# Altium integrated library ad_test2.IntLib: 10 symbols
Pins are listed as number, name and electrical type; pins without a type are passive.

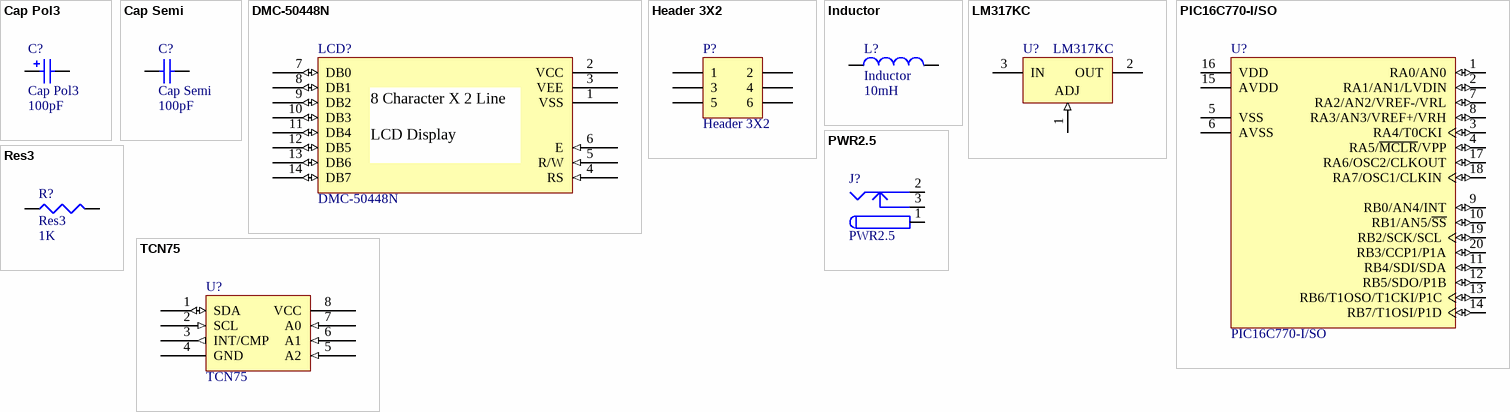
[diagram p0: symbols Cap Pol3 to TCN75]

## Cap Pol3
designator C?  value 100pF
Polarized Capacitor (Surface Mount); Published: 8-Jun-2000; LatestRevisionDate: 29-May-2009; LatestRevisionNote: IPC-7351 Footprint Added.; PackageReference: C0805; Publisher: Altium Limited; PackageDescription: Chip Capacitor
footprint C0805 (Chip Capacitor, Body 2.0x1.3mm, IPC High Density)
footprint 1812 (Chip Capacitor, Body 4.5x3.2mm, IPC High Density)
footprint 1825 (Chip Capacitor, Body 4.5x6.4mm, IPC High Density)
footprint C2225 (Chip Capacitor, Body 5.7x6.4mm, IPC High Density)
footprint 2220 (Chip Capacitor, Body 5.7x5.0mm, IPC High Density)
simulation model CAP (Capacitor)
signal-integrity model Cap Pol
pins: 1, 2
1 alternate drawing of the same symbol

## Cap Semi
designator C?  value 100pF
Capacitor (Semiconductor SIM Model); Published: 8-Jun-2000; LatestRevisionDate: 29-May-2009; LatestRevisionNote: IPC-7351 Footprint Added.; PackageReference: C1206; Publisher: Altium Limited; PackageDescription: Chip Capacitor
footprint C1206 (Chip Capacitor, Body 3.2x1.6mm, IPC High Density)
footprint 0402 (Chip Capacitor, Body 1.0x0.5mm, IPC High Density)
footprint C2512 (Chip Capacitor, Body 2.54x1.27mm, IPC High Density)
footprint 1608[0603] (Chip Capacitor, Body 1.6x0.8mm, IPC High Density)
footprint C1210 (Chip Capacitor, Body 3.2x2.5mm, IPC High Density)
simulation model CAP (Semiconductor Capacitor)
signal-integrity model Cap Semi
pins: 1, 2

## DMC-50448N
designator LCD?
8 Character X 2 Line / LCD Display
footprint DMC-50448N (LCD,DMC-50448N)
pins: 1 VSS (power), 2 VCC (power), 3 VEE (power), 4 RS (in), 5 R/W (in), 6 E (in), 7 DB0 (io), 8 DB1 (io), 9 DB2 (io), 10 DB3 (io), 11 DB4 (io), 12 DB5 (io), 13 DB6 (io), 14 DB7 (io)
text: 8 Character X 2 Line / LCD Display

## Header 3X2
designator P?
Header, 3-Pin, Dual row; LatestRevisionDate: 17-Jul-2002; LatestRevisionNote: Re-released for DXP Platform.; Publisher: Altium Limited
footprint HDR2X3 (Connector; Header; 3x2 Position)
signal-integrity model Connector
pins: 1, 2, 3, 4, 5, 6

## Inductor
designator L?  value 10mH
Code_IEC: 1005; Published: 8-Jun-2000; LatestRevisionDate: 29-May-2009; LatestRevisionNote: IPC-7351 Footprint Added.; PackageReference: 0402-A; Publisher: Altium Limited; PackageDescription: Chip Inductor; Code_JEITA: 0402
footprint 0402-A (Chip Inductor, Body 1.0x0.5mm, IPC High Density)
footprint INDC1608L (Chip Inductor, Body 1.6x0.8mm, IPC High Density)
footprint 2029 (Chip Inductor, Body 2.0x1.2mm, IPC High Density)
footprint 0603 (Chip Inductor, Body 0.6x0.3mm, IPC High Density)
footprint INDC3216 (Chip Inductor, Body 3.2x1.6mm, IPC High Density)
footprint INDC4532 (Chip Inductor, Body 4.5x3.2mm, IPC High Density)
simulation model INDUCTOR (Inductor)
signal-integrity model Inductor
pins: 1, 2

## LM317KC
designator U?
3-Terminal Adjustable Regulator; Note: Pin 2 is electrically connected to tab; Published: 15-Apr-2002; DatasheetVersion: Feb-1988; PackageVersion: Sep-1995; PackageReference: KC03; Publisher: Altium Limited; PackageDescription: TO, Thru-Hole, Vertical, Heatsink Mounted; 3 In-Line Leads; Pitch 2.54 mm; ComponentLink1Description: Manufacturer Link; ComponentLink1URL: http://www.ti.com/
footprint KC03 (TO, Thru-Hole, Vertical, Heatsink Mounted; 3 In-Line Leads; Pitch 2.54 mm)
pins: 1 ADJ (in), 2 OUT (power), 3 IN (power)

## PIC16C770-I/SO
designator U?
8-Bit CMOS Microcontroller with 12-Bit A/D, 2K (x14-Bit words) EPROM, 256 Bytes RAM, 20-Pin SOIC, 4.0 to 5.5V Supply Range, Industrial Temperature; ComponentAvailability: Unknown. Contact manufacturer to determine status.; Published: 11-Oct-2004; LatestRevisionDate: 29-Jan-2009; LatestRevisionNote: Sch. layout revised. 3D Model Removed.; DatasheetVersion: revB, Feb-2002; PackageVersion: revBB, Aug-2009; PackageReference: SOIC-SO20; Publisher: Altium Limited; PackageDescription: 20-Lead Plastic Small Outline (SO) - Wide 7.50mm Body [SOIC]; Supplier 1: Digi-Key; Supplier Part Number 1: PIC16C770-I/SO-ND; Code_JEDEC: MS-013-AC; Code_IPC: SOIC127P1030-20; ComponentLink1Description: Datasheet; ComponentLink1URL: http://ww1.microchip.com/downloads/en/DeviceDoc/41120b.pdf; ComponentLink2Description: Packaging Specification; ComponentLink2URL: http://www.microchip.com/stellent/groups/techpub_sg/documents/packagingspec/en012702.pdf; ComponentLink3Description: Microchip.com Home; ComponentLink3URL: http://www.microchip.com/
footprint SOIC-SO20_N (SOIC, 20-Leads, Body 12.8x7.5mm, Pitch 1.27mm, IPC Medium Density)
footprint SOIC-SO20_L (SOIC, 20-Leads, Body 12.8x7.5mm, Pitch 1.27mm, IPC High Density)
footprint SOIC-SO20_M (SOIC, 20-Leads, Body 12.8x7.5mm, Pitch 1.27mm, IPC Low Density)
pins: 1 RA0/AN0 (io), 2 RA1/AN1/LVDIN (io), 3 RA4/T0CKI (io), 4 RA5/~{MCLR}/VPP (io), 5 VSS (power), 6 AVSS (power), 7 RA2/AN2/VREF-/VRL (io), 8 RA3/AN3/VREF+/VRH (io), 9 RB0/AN4/INT (io), 10 RB1/AN5/~{SS} (io), 11 RB4/SDI/SDA (io), 12 RB5/SDO/P1B (io), 13 RB6/T1OSO/T1CKI/P1C (io), 14 RB7/T1OSI/P1D (io), 15 AVDD (power), 16 VDD (power), 17 RA6/OSC2/CLKOUT (io), 18 RA7/OSC1/CLKIN (io), 19 RB2/SCK/SCL (io), 20 RB3/CCP1/P1A (io)

## PWR2.5
designator J?
Low Voltage Power Supply Connector; Published: 17-Dec-2003; DatasheetDocument: 09-May-2002; Publisher: Altium Limited; ComponentLink1Description: Manufacturer Link; ComponentLink1URL: http://domino.kycon.com/internet/Products.html
footprint KLD-0202 (DC Power Jack, 2.5mm, KLD Series, PCB Mount)
signal-integrity model Connector
pins: 1 (power), 1A (power), 1B (power), 2 (power), 2A (power), 2B (power), 3 (power), 3A (power), 3B (power)

## Res3
designator R?  value 1K
Resistor; Published: 8-Jun-2000; LatestRevisionDate: 29-May-2009; LatestRevisionNote: IPC-7351 Footprint Added.; PackageReference: J1-0603; Publisher: Altium Limited; PackageDescription: Chip Resistor
footprint J1-0603 (Chip Resistor, Body 1.6x0.8mm, IPC High Density)
footprint 14-1210 (Chip Resistor, Body 3.2x2.5mm, IPC High Density)
footprint 12Z-2010 (Chip Resistor, Body 5.0x2.5mm, IPC High Density)
footprint RESC6332 (Chip Resistor, Body 6.3x3.2mm, IPC High Density)
simulation model RESISTOR (Resistor)
signal-integrity model Res
pins: 1, 2

## TCN75
designator U?
TCN75数字温度传感器将-40°C到+125°C范围内的温度转换为数字
footprint TCN75-SOIC (TCN75-SOIC, 8-Leads, Body 4.90x3.90mm, Pitch 1.27mm, IPC Low Density)
pins: 1 SDA (io), 2 SCL (in), 3 INT/CMP (out), 4 GND (power), 5 A2 (in), 6 A1 (in), 7 A0 (in), 8 VCC (power)